# Altium schematic symbol library BMS-lib.SchLib: 40 symbols (part 1 of 2)
Pins are listed as number, name and electrical type; pins without a type are passive.

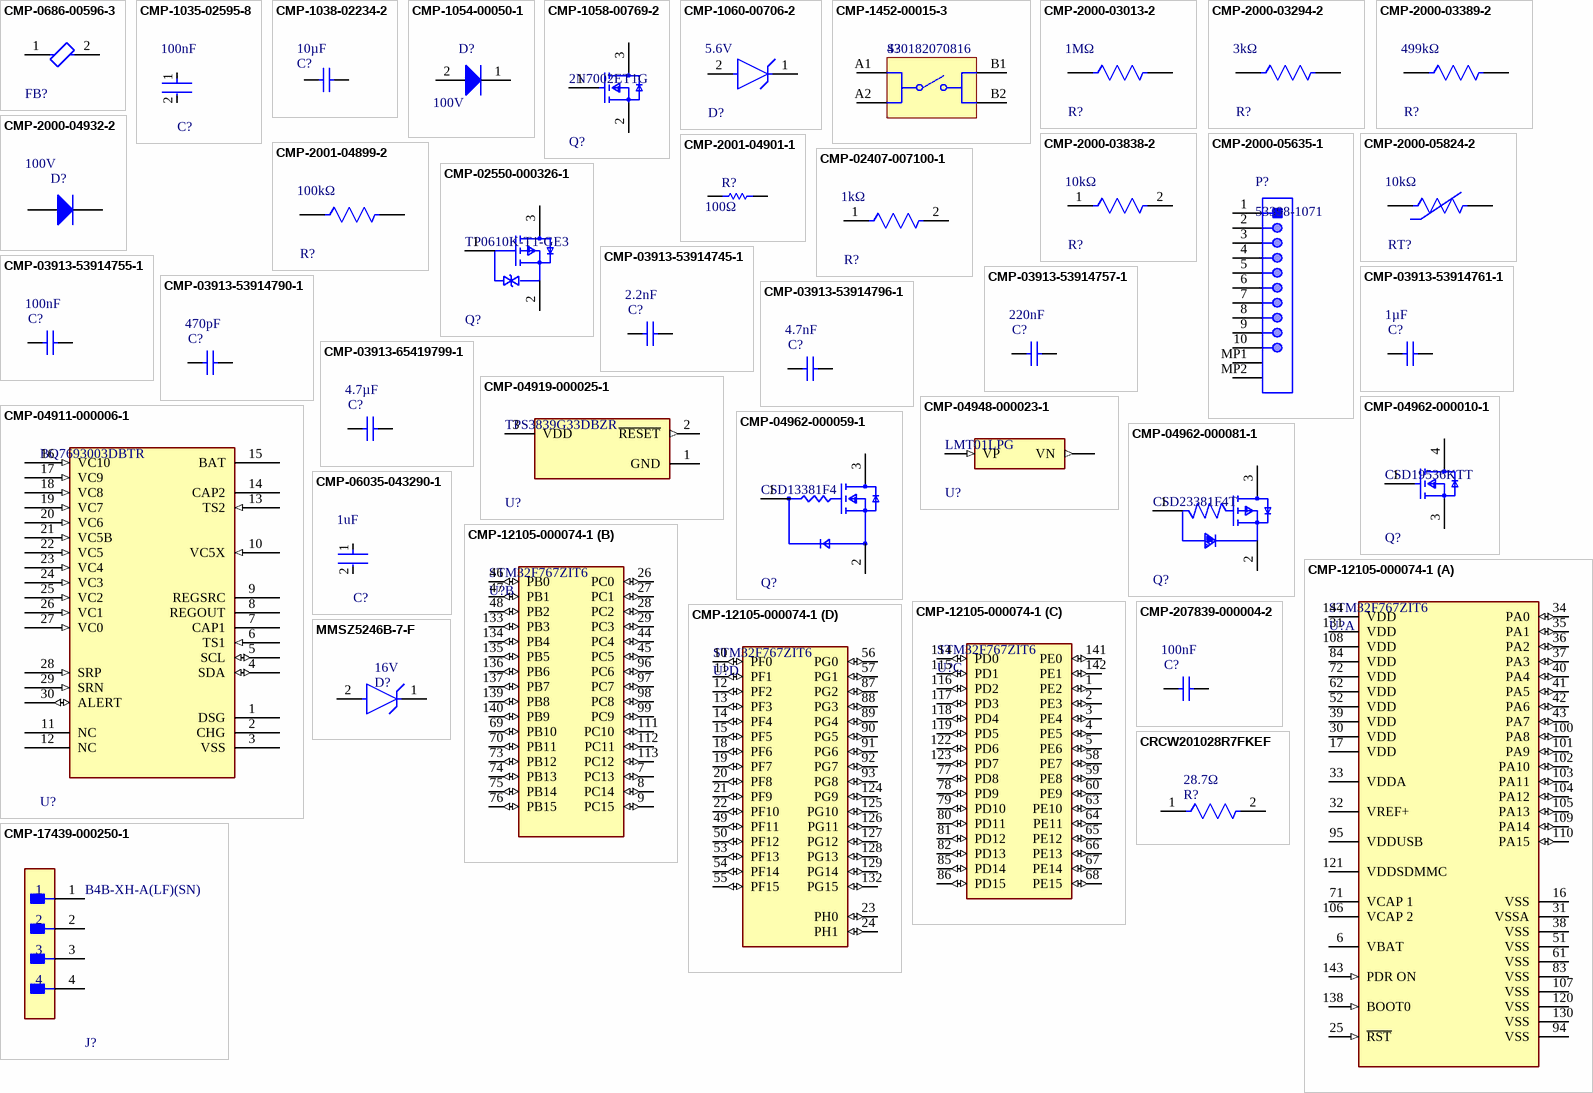
[diagram p0: symbols CMP-0686-00596-3 to MMSZ5246B-7-F]

## CMP-0686-00596-3
designator FB?, comment BLM18SG221TN1D  (value not drawn)
Chip Ferrite Bead, 0603, 220Ω @ 100MHz, 25%, 0.04Ω, 2.5A; Impedance: 220R; DC Resistance-Max: 40mR; Number of Circuits: 1; Test Frequency: 100MHz; Material: Ferrite; Lead Free: Lead Free; Width: 0.8mm; Max Current Rating: 2.5A; Termination: SMD/SMT; Depth: 0.95mm; Packaging: Tape and Reel; Case Code (Metric): 1608; DC Current: 2.5A; Weight: 7.1E-05oz; Min Operating Temperature: -55°C; DC Resistance (DCR): 40mR; Max Operating Temperature: 125°C; Core Material: Ferrite; Max DC Current: 2.5A; Case/Package: 0603; REACH SVHC: No SVHC; Height: 0.8mm; Number of Pins: 2; Tolerance: 25%; RoHS Compliant: Yes; Radiation Hardening: No; Current Rating: 2.5A; Number of Lines: 1; Series: BLM18S; Case Code (Imperial): 0603; Length: 1.6mm; Package Quantity: 1; Supplier 1: Mouser; Supplier Part Number 1: 81-BLM18SG221TN1D
footprint FP-BLM18-0_15-t0_5-IPC_C
footprint FP-BLM18-0_15-t0_5-MFG
footprint FP-BLM18-0_15-t0_5-IPC_A
footprint FP-BLM18-0_15-t0_5-IPC_B
pins: 1, 2

## CMP-1035-02595-8
designator C?, comment Capacitance: 100nF  (hidden comment: GRM188R72A104KA35D)
Chip Multilayer Ceramic Capacitors for General Purpose, 0603, 0.10uF, X7R, 15%, 10%, 100V; Voltage Rating (DC): 100V; Material: Ceramic; Packaging: Tape and Reel; Dielectric: X7R; Case Code (Imperial): 0603; Package Quantity: 1; Height: 0.8mm; Weight: 0.000222oz; Min Operating Temperature: -55°C; Depth: 0.8mm; Mount: Surface Mount; Thickness: 0.035inch; Voltage: 100V; REACH SVHC: No SVHC; Case/Package: 0603; Voltage Rating: 100V; Width: 0.8mm; Tolerance: 10%; Lead Free: Lead Free; Case Code (Metric): 1608; Radiation Hardening: No; Max Operating Temperature: 125°C; Termination: SMD/SMT; Length: 1.6mm; Supplier 1: Mouser; Supplier Part Number 1: 81-GRM188R72A104KA35; Supplier 2: Digikey; Supplier Part Number 2: 490-3285-1-ND
footprint FP-GRM188-0_1-e0_2_0_5-IPC_A
footprint FP-GRM188-0_1-e0_2_0_5-IPC_B
footprint FP-GRM188-0_1-e0_2_0_5-MFG
footprint FP-GRM188-0_1-e0_2_0_5-IPC_C
pins: 1, 2

## CMP-1038-02234-2
designator C?, comment Capacitance: 10µF  (hidden comment: GRM32ER7YA106KA12L)
Chip Capacitor, 10 uF, +/- 10%, 35 V, -55 to 125 degC, 1210 (3225 Metric), RoHS, Tape and Reel; Manufacturer: Murata; Rated voltage: 35VDC; Ceramic type: X7R; Construction form: 1210; Package Description: 2-Pin Surface Mount Device, Body 3.2 x 2.5 mm; Datasheet Version: 11/2014; Capacitance tolerance: ±10%; Datasheet URL: https://datasheet.ciiva.com/3777/grm32er7ya106ka1223-3777248.pdf; Package Reference: 1210; Manufacturer URL: http://www.murata.com/; Mounting Technology: SurfaceMount; Supplier 1: Mouser; Supplier Part Number 1: 81-GRM32ER7YA106KA2L
footprint CAPC3225X270X30ML30 (Chip Capacitor, 2-Leads, Body 3.5x2.7mm, IPC Low Density)
footprint CAPC3225X270X30LL30 (Chip Capacitor, 2-Leads, Body 3.5x2.7mm, IPC High Density)
footprint CAPC3225X270X30NL30 (Chip Capacitor, 2-Leads, Body 3.5x2.7mm, IPC Medium Density)
pins: 1, 2

## CMP-1054-00050-1
designator D?, comment Voltage Rating (DC): 100V  (hidden comment: MMSD914T1G)
Rectifier Diode, 1 Phase, 1 Element, 0.2A, 100V V(RRM), Silicon; Manufacturer: On Semiconductor; Configuration: Single; trr Max (ns): 4; IF Max (A): 0.2; Packing: Tape and Reel; Package Body Material: Plastic; Forward Voltage: 1V; Non-rep Pk Forward Current-Max: 500mA; Number of Elements: 1; Max Output current: 200mA; Max Power Dissipation: 425mW; Reverse Recovery Time-Max: 0.004us; Time @ Peak Reflow Temperature-Max (s): 40s; Qualification Status: Not Qualified; ComponentLink2URL: http://www.onsemi.com/pub_link/Collateral/MMSD914T1-D.PDF; PackageVersion: Rev. G, 10/2009; PackageReference: SOD-123-2-425-04; DatasheetVersion: Rev. 11; PackageDescription: 2-Pin SOD, Body 1.6 x 2.69 mm; ComponentLink3Description: Package Specification; ComponentLink2Description: Datasheet; ComponentLink3URL: http://www.onsemi.com/pub_link/Collateral/425-04.PDF; ComponentLink1URL: http://www.onsemi.com/; RoHS: TRUE; Mounting Technology: Surface Mount; ComponentLink1Description: Manufacturer URL; PartNumber: MMSD914T1G; Supplier: Future Electronics; Supplier Part Number: 5827118; Manufacturer Part Number: MMSD914T1G; Category: Rectifier Diodes; Stock: 801000; Pricing: 3000=0.0143, 12000=0.0136, 30000=0.0132, 75000=0.0129, 120000=0.0123 (USD); Pins: 2; Diode Element Material: SILICON; Package Shape: Rectangular; Terminal Finish: Tin; Min Operating Temperature: -55°C; Max Operating Temperature: 150°C; JESD-609 Code: e3; Diode Type: RECTIFIER; JESD-30 Code: R-PDSO-G2; Moisture Sensitivity Level: 1; Package Style: SMALL OUTLINEMeter; Rep Pk Reverse Voltage-Max: 100V; Surface Mount: Yes; Terminal Form: Gull Wing; Terminal Position: DUAL; Peak Reflow Temperature (Cel): 260°C; Reach SVHC Compliant: Yes; RoHS Compliant: Yes; ComponentLink4URL: https://datasheet.ciiva.com:443/pdfs/VipMasterIC/IC/ONSM/ONSMS25591/ONSMS25591-1.pdf?src-supplier=IHS+Markit; ComponentLink4Description: https://datasheet.ciiva.com:443/pdfs/VipMasterIC/IC/ONSM/ONSMS25591/ONSMS25591-1.pdf?src-supplier=IHS+Markit; ComponentLink5URL: https://datasheet.ciiva.com/927/mmsd914t1-d-927475.pdf?src-supplier=Avnet; ComponentLink5Description: https://datasheet.ciiva.com/927/mmsd914t1-d-927475.pdf?src-supplier=Avnet; ComponentLink6URL: https://datasheet.ciiva.com/915/mmsd914t1-d-915389.pdf?src-supplier=Digikey; ComponentLink6Description: https://datasheet.ciiva.com/915/mmsd914t1-d-915389.pdf?src-supplier=Digikey; ComponentLink7URL: https://datasheet.ciiva.com/915/mmsd914t1-d-915390.pdf?src-supplier=Digikey; ComponentLink7Description: https://datasheet.ciiva.com/915/mmsd914t1-d-915390.pdf?src-supplier=Digikey; ComponentLink8URL: https://datasheet.ciiva.com/915/mmsd914t1-d-915391.pdf?src-supplier=Digikey; ComponentLink8Description: https://datasheet.ciiva.com/915/mmsd914t1-d-915391.pdf?src-supplier=Digikey; ComponentLink9URL: https://datasheet.ciiva.com/8299/mmsd914t1-d-8299885.pdf?src-supplier=Avnet; ComponentLink9Description: https://datasheet.ciiva.com/8299/mmsd914t1-d-8299885.pdf?src-supplier=Avnet; Supplier 1: Mouser; Supplier Part Number 1: 863-MMSD914T1G; Supplier 2: Digikey; Supplier Part Number 2: MMSD914T1GOSCT-ND
footprint ONSC-SOD-123-2-425-04_V (SOD, 2-Leads, Body 2.69x1.6mm)
pins: 1 K, 2 A

## CMP-1058-00769-2
designator Q?, comment 2N7002ET1G
MOSFET N-CH 60V 260MA SOT-23; On-State Resistance: 2.5R; Turn-Off Delay Time: 4.8ns; Nominal Vgs: 1V; Element Configuration: Single; Rise Time: 1.2ns; Input Capacitance: 26.7pF; Number of Elements: 1; Turn-On Delay Time: 1.7ns; Gate to Source Voltage (Vgs): 20V; Max Power Dissipation: 300mW; Drain to Source Breakdown Voltage: 60V; Max Operating Temperature: 150°C; REACH SVHC: No SVHC; Case/Package: SOT-23-3; Lead Free: Lead Free; Length: 2.9mm; Height: 0.94mm; Package Quantity: 3000; Min Operating Temperature: -55°C; Radiation Hardening: No; Packaging: Tape and Reel; Fall Time: 1.2ns; Drain to Source Resistance: 2.5R; Halogen Free: Halogen Free; Threshold Voltage: 1V; Number of Pins: 3; Continuous Drain Current (ID): 260mA; Rds On Max: 2.5R; Power Dissipation: 300mW; Width: 1.3mm; Supplier 1: Mouser; Supplier Part Number 1: 863-2N7002ET1G; Supplier 2: Digikey; Supplier Part Number 2: 2N7002ET1GOSCT-ND
footprint FP-318-08-MFG
footprint FP-318-08-IPC_C
footprint FP-318-08-IPC_B
footprint FP-318-08-IPC_A
pins: 1 Gate, 2 Source, 3 Drain

## CMP-1060-00706-2
designator D?, comment Voltage Rating (DC): 5.6V  (hidden comment: MM3Z5V6ST1G)
DIODE ZENER 5.6V 300MW SOD323; Test Current: 5mA; Power Rating: 200mW; ESD Protection: Yes; Peak Reverse Current: 1uA; Voltage Tolerance: 2%; Forward Voltage: 900mV; Impedance: 40R; Element Configuration: Single; Material: Plastic; Zener Current: 10mA; Length: 1.8mm; Package Quantity: 1; Contact Plating: Tin; Number of Pins: 2; Case/Package: SOD-323-2; Max Power Dissipation: 200mW; Lead Free: Lead Free; Radiation Hardening: No; Width: 1.35mm; REACH SVHC: No SVHC; Zener Voltage: 5.6V; Height: 1mm; Max Reverse Leakage Current: 1uA; Packaging: Tape and Reel; Min Operating Temperature: -65°C; Power Dissipation: 200mW; Max Operating Temperature: 150°C; Working Voltage: 5.6V; Tolerance: 2%; Supplier 1: Mouser; Supplier Part Number 1: 863-MM3Z5V6ST1G; Supplier 2: Digikey; Supplier Part Number 2: MM3Z5V6ST1GOSCT-ND
footprint FP-477-02-MFG
footprint FP-477-02-IPC_C
footprint FP-477-02-IPC_B
footprint FP-477-02-IPC_A
pins: 1 C, 2 A

## CMP-1452-00015-3
designator S?, comment 430182070816
Switch Tactile Spst-no 0.05A 12V; Life (Cycles): 1Mcycles; Switch Travel: 250µm; Throw Configuration: SPST; Switch Function: Off-Mom; Actuator Material: Liquid Crystal Polymer, Polymer; Contact Current Rating: 50mA; Illumination Type: Illuminated, Non-Illuminated; Insulation Resistance: 100MΩ; Actuator Length: 3.6mm; Color: Black; Mount: Surface Mount; Contact Material: Stainless Steel, Steel; REACH SVHC: No SVHC; Width: 6.2mm; Voltage Rating (DC): 12V; RoHS: Compliant; Length: 6.2mm; Height: 7mm; Current Rating: 50mA; Lead Free: Lead Free; Termination: Gull Wing; Min Operating Temperature: -40°C; Voltage Rating: 12V; Max Operating Temperature: 85°C; Diameter: 3mm; Contact Plating: Silver; Packaging: Tape and Reel; Mechanical Life: 1Mcycles; Contact Resistance: 100mΩ; Supplier 1: Mouser; Supplier Part Number 1: 710-430182070816
footprint 430182070816 (SMD Tact Switch, body 6x6mm)
pins: A1, A2, B1, B2

## CMP-2000-03013-2
designator R?, comment Resistance: 1MΩ  (hidden comment: CRCW06031M00FKEA)
RES Thick Film, 1MΩ, 1%, 0.1W, 100ppm/°C, 0603; Max Power Dissipation: 100mW; Voltage Rating (DC): 75V; Depth: 0.85mm; Max Operating Temperature: 155°C; Length: 1.55mm; Power Rating: 100mW; Military Standard: Not; Features: Automotive AEC-Q200; Min Operating Temperature: -55°C; Number of Pins: 2; Mount: Surface Mount; Package Quantity: 10; Packaging: Tape and Reel; Height: 0.45mm; Radiation Hardening: No; Case Code (Metric): 1608; Temperature Coefficient: 100ppm/°C; Width: 0.85mm; Composition: Thick Film; Termination: SMD/SMT; Tolerance: 1%; Number of Terminations: 2; Lead Free: Lead Free; Contact Plating: Tin; Case/Package: 0603; Weight: 7.1E-05oz; Voltage Rating: 75V; Case Code (Imperial): 0603
footprint FP-CRCW0603-e3-MFG
footprint FP-CRCW0603-e3-IPC_A
footprint FP-CRCW0603-e3-IPC_B
footprint FP-CRCW0603-e3-IPC_C
pins: 1, 2

## CMP-2000-03294-2
designator R?, comment Resistance: 3kΩ  (hidden comment: CRCW06033K00JNEA)
RES Thick Film, 3kΩ, 5%, 0.1W, 200ppm/°C, 0603; Voltage Rating: 75V; Power Rating: 100mW; Mount: Surface Mount; Number of Pins: 2; Weight: 7.1E-05oz; Voltage Rating (DC): 75V; Case Code (Imperial): 0603; Length: 1.55mm; Max Operating Temperature: 155°C; Contact Plating: Tin; Radiation Hardening: No; Temperature Coefficient: 200ppm/°C; Case Code (Metric): 1608; Min Operating Temperature: -55°C; Depth: 0.85mm; Termination: SMD/SMT; Height: 0.02inch; Features: Automotive AEC-Q200; Tolerance: 5%; Number of Terminations: 2; Military Standard: Not; Width: 0.85mm; Case/Package: 0603; Composition: Thick Film; Lead Free: Lead Free; Max Power Dissipation: 100mW; Packaging: Tape and Reel; Working Voltage: 75V; Package Quantity: 1; Supplier 1: Mouser; Supplier Part Number 1: 71-CRCW0603J-3.0K-E3
footprint FP-CRCW0603-e3-MFG
footprint FP-CRCW0603-e3-IPC_A
footprint FP-CRCW0603-e3-IPC_B
footprint FP-CRCW0603-e3-IPC_C
pins: 1, 2

## CMP-2000-03389-2
designator R?, comment Resistance: 499kΩ  (hidden comment: CRCW0603499KFKEA)
Fixed Resistor, Metal Glaze/thick Film, 0.1W, 499000ohm, 75V, 1% +/-Tol, 100ppm/Cel, Surface Mount, 0603; Manufacturer: Vishay; Temperature Coefficient: 100ppm/°C; Power Rating: 100mW; Value: 499kR; Rated Temperature: 70°C; Package Height: 0.45mm; Package Length: 1.55mm; Package Width: 0.85mm; Reference Standard: AEC-Q200; Min Operating Temperature: -55°C; Radiation Hardening: No; Weight: 7.1E-05oz; Case/Package: 0603; Depth: 0.85mm; Package Quantity: 10; Working Voltage: 75V; Height: 0.45mm; Voltage Rating (DC): 75V; Case Code (Metric): 1608; Case Code (Imperial): 0603; Number of Pins: 2; Lead Free: Lead Free; Contact Plating: Tin; Max Power Dissipation: 100mW; Features: Automotive AEC-Q200; Max Operating Temperature: 155°C; Width: 0.85mm; Termination: SMD/SMT; Packaging: Tape and Reel; Tolerance: 1%; Number of Terminations: 2; Military Standard: Not; Length: 1.55mm; Composition: Thick Film; Mount: Surface Mount; Voltage Rating: 75V; Supplier 1: Digikey; Supplier Part Number 1: 541-499KHDKR-ND; Supplier 2: Digikey; Supplier Part Number 2: 541-499KHCT-ND; Supplier 3: Mouser; Supplier Part Number 3: 71-CRCW0603-499K-E3; Supplier: Mouser; Supplier Part Number: 71-CRCW0603-499K-E3; Manufacturer Part Number: CRCW0603499KFKEA; RoHS: Yes; Category: Chip SMD Resistors; Stock: 55441; Pricing: 1=0.1, 10=0.017, 50=0.017, 100=0.01, 1000=0.008, 10000=0.005 (USD); Mounting Technology: Surface Mount; Pins: 2; Terminal Finish: Nickel; Package Shape: Rectangular; JESD-609 Code: e3; Resistor Type: FIXED RESISTOR; Construction: Chip; Power: 100mW; Technology: METAL GLAZE/THICK FILM; Reach SVHC Compliant: Yes; RoHS Compliant: Yes; ComponentLink1URL: https://datasheet.ciiva.com:443/pdfs/VipMasterIC/IC/VISH/VISH-S-A0007266705/VISH-S-A0007266705-1.pdf?src-supplier=IHS+Markit; ComponentLink1Description: https://datasheet.ciiva.com:443/pdfs/VipMasterIC/IC/VISH/VISH-S-A0007266705/VISH-S-A0007266705-1.pdf?src-supplier=IHS+Markit; ComponentLink2URL: https://datasheet.ciiva.com/11811/0900766b80d98afc-11811204.pdf?src-supplier=Rs; ComponentLink2Description: https://datasheet.ciiva.com/11811/0900766b80d98afc-11811204.pdf?src-supplier=Rs; ComponentLink3URL: https://datasheet.ciiva.com/3257/dcrcwe3-3257647.pdf?src-supplier=Avnet; ComponentLink3Description: https://datasheet.ciiva.com/3257/dcrcwe3-3257647.pdf?src-supplier=Avnet; ComponentLink4URL: https://datasheet.ciiva.com/2465/dcrcwe3-2465609.pdf?src-supplier=Digikey; ComponentLink4Description: https://datasheet.ciiva.com/2465/dcrcwe3-2465609.pdf?src-supplier=Digikey; ComponentLink5URL: https://datasheet.ciiva.com/2465/dcrcwe3-2465610.pdf?src-supplier=Digikey; ComponentLink5Description: https://datasheet.ciiva.com/2465/dcrcwe3-2465610.pdf?src-supplier=Digikey; ComponentLink6URL: https://datasheet.ciiva.com/2465/dcrcwe3-2465611.pdf?src-supplier=Digikey; ComponentLink6Description: https://datasheet.ciiva.com/2465/dcrcwe3-2465611.pdf?src-supplier=Digikey; ComponentLink7URL: https://datasheet.ciiva.com/16784/70201119-16784775.pdf?src-supplier=Allied+Electronics; ComponentLink7Description: https://datasheet.ciiva.com/16784/70201119-16784775.pdf?src-supplier=Allied+Electronics; ComponentLink8URL: https://datasheet.ciiva.com/7168/1635184-7168517.pdf?src-supplier=Newark; ComponentLink8Description: https://datasheet.ciiva.com/7168/1635184-7168517.pdf?src-supplier=Newark; ComponentLink9URL: https://datasheet.ciiva.com/16200/dcrcwe3-16200202.pdf?src-supplier=Future+Electronics; ComponentLink9Description: https://datasheet.ciiva.com/16200/dcrcwe3-16200202.pdf?src-supplier=Future+Electronics; ComponentLink10URL: https://datasheet.ciiva.com/5551/dcrcwe3-109170-5551960.pdf?src-supplier=Mouser; ComponentLink10Description: https://datasheet.ciiva.com/5551/dcrcwe3-109170-5551960.pdf?src-supplier=Mouser
footprint FP-CRCW0603-e3-MFG
footprint FP-CRCW0603-e3-IPC_A
footprint FP-CRCW0603-e3-IPC_B
footprint FP-CRCW0603-e3-IPC_C
pins: 1, 2

## CMP-2000-03838-2
designator R?, comment Resistance: 10kΩ  (hidden comment: CRCW060310K0JNEA)
RES Thick Film, 10kΩ, 5%, 0.1W, 200ppm/°C, 0603; Max Power Dissipation: 100mW; Voltage Rating: 75V; Termination: SMD/SMT; Depth: 0.85mm; Weight: 7.1E-05oz; Military Standard: Not; Case Code (Imperial): 0603; Lead Free: Lead Free; Features: Automotive AEC-Q200; Tolerance: 5%; Case Code (Metric): 1608; Package Quantity: 1; Radiation Hardening: No; Number of Terminations: 2; Max Operating Temperature: 155°C; Min Operating Temperature: -55°C; Composition: Thick Film; Number of Pins: 2; Height: 0.02inch; Contact Plating: Tin; Temperature Coefficient: 200ppm/°C; Width: 0.033inch; Packaging: Tape and Reel; Length: 1.55mm; Mount: Surface Mount; Voltage Rating (DC): 75V; Case/Package: 0603; Power Rating: 100mW; Supplier 1: Mouser; Supplier Part Number 1: 71-CRCW0603J-10K-E3
footprint FP-CRCW0603-e3-MFG
footprint FP-CRCW0603-e3-IPC_A
footprint FP-CRCW0603-e3-IPC_B
footprint FP-CRCW0603-e3-IPC_C
pins: 1, 2

## CMP-2000-04932-2
designator D?, comment Peak Reverse Voltage: 100V  (hidden comment: 1N4148W-7-F)
Fast Switching Diode, 100 V, 0.15 A, -65 to 150 degC, 2-Pin?SOD123, RoHS, Tape and Reel; Recovery Time: 4ns; Brand: DiodesIncorporated; Unit Weight: 0.000353oz; Max Surge Current: 2A; Ir - Reverse Current: 1uA; Vf - Forward Voltage: 1.25V; Configuration: Single; If - Forward Current: 0.15A; Product Category: Diodes-GeneralPurpose,Power,Switching; Operating Temperature Range: -65Cto+150C; Packaging: Reel; Manufacturer URL: http://www.diodes.com/; Maximum Operating Temperature: +150C; Height: 1.25mm; Minimum Operating Temperature: -65C; Product: SwitchingDiodes; Package URL: http://www.diodes.com/datasheets/ds18004.pdf; Type: SwitchingDiode; Package Reference: SOD123-2; Width: 1.7mm; Datasheet URL: http://www.farnell.com/datasheets/1915529.pdf; Datasheet Version: Rev. 24-2, 10/2013; Series: 1N4148; Factory Pack Quantity: 3000; Length: 2.85mm; RoHS: True; Manufacturer: DiodesIncorporated; Mounting Style: SMD/SMT; Package / Case: SOD-123; Supplier 1: Mouser; Supplier Part Number 1: 621-1N4148W-F; Supplier 2: Digikey; Supplier Part Number 2: 1N4148W-FDICT-ND
footprint DIOD-SOD123-2_V (SOD123, 2-Leads, Body 2.7x1.55mm, Height 1.45mm)
pins: 1 A, 2 K

## CMP-2000-05635-1
designator P?, comment 53398-1071
Male Header, Pitch 1.25 mm, 1 x 10 Position, Height 4.7 mm, -40 to 85 degC, RoHS, Tape and Reel; Manufacturer: Molex; Mounting Angle: Vertical; Pitch: 1.25mm; Voltage Rating: 125V; Current Rating: 1A; Number of Rows: 1Row; Housing Material: Nylon; Mounting Technology: SurfaceMount; Mounting Style: SMD; Contact Material: PhosphorBronze; Product: Headers; Datasheet URL: http://www.molex.com/pdm_docs/sd/533981071_sd.pdf; Manufacturer URL: http://www.molex.com/; Datasheet Version: Rev. J, 09/2015; Factory Pack Quantity: 1000; Brand: Molex; Packaging: Reel; Product Category: Headers&WireHousings; Contact Gender: Pin(Male); Number of Positions: 10Position; RoHS: Details; Contact Plating: Tin; Package Description: Male Header, Pitch 1.25 mm, 1 x 10 Position, Height 4.7 mm; Series: 53398; Type: Shrouded; Package Reference: 53398-1071; Tradename: PicoBlade; Termination Style: SMD; Supplier 1: Mouser; Supplier Part Number 1: 538-53398-1071
footprint MOLX-53398-1071_V (SMD, 10-Leads, Body 17.65x3.7mm, Pitch 1.25mm)
pins: 1, 2, 3, 4, 5, 6, 7, 8, 9, 10, MP1, MP2

## CMP-2000-05824-2
designator RT?, comment Resistance: 10kΩ  (hidden comment: 103AT-2)
Thermistor NTC 10KOhm 1% 2-Pin; Lead Pitch: 2.54mm; Height: 2.4mm; Max Operating Temperature: 110°C; Width: 3.7mm; RoHS Compliant: Yes; Min Operating Temperature: -50°C; Termination: Radial; Packaging: Bulk; Number of Pins: 2; Series: AT; Tolerance: 1%; Length: 17mm; Supplier 1: Mouser; Supplier Part Number 1: 954-103AT-2
footprint FP-103AT-2-MFG
pins: 1, 2

## CMP-2001-04899-2
designator R?, comment Resistance: 100kΩ  (hidden comment: CRCW0805100KFKEA)
RES Thick Film, 100kΩ, 1%, 0.125W, 100ppm/°C, 0805; Power Rating: 125mW; Voltage Rating: 150V; Case/Package: 0805; Max Operating Temperature: 155°C; Case Code (Imperial): 0805; Lead Free: Lead Free; Weight: 0.000194oz; Number of Pins: 2; Package Quantity: 5000; Height: 0.45mm; Composition: Thick Film; Military Standard: Not; Tolerance: 1%; Case Code (Metric): 2012; Termination: SMD/SMT; Mount: Surface Mount; Radiation Hardening: No; Width: 1.25mm; Length: 2mm; Depth: 1.25mm; Packaging: Tape and Reel; Min Operating Temperature: -55°C; Contact Plating: Tin; Temperature Coefficient: 100ppm/°C; Voltage Rating (DC): 150V; Supplier 1: Mouser; Supplier Part Number 1: 71-CRCW0805-100K-E3
footprint FP-CRCW0805-e3-MFG
footprint FP-CRCW0805-e3-IPC_A
footprint FP-CRCW0805-e3-IPC_C
footprint FP-CRCW0805-e3-IPC_B
pins: 1, 2

## CMP-2001-04901-1
designator R?, comment Resistance: 100Ω  (hidden comment: CRCW0805100RFKEA)
Manufacturer: Vishay Dale; Part Number: CRCW0805100RFKEA; Supplier 1: Digikey; Supplier Part Number 1: 541-100CCT-ND
footprint RESC2013X50X30ML20T20 (Chip Resistor, 2-Leads, Body 2.00x1.25mm, IPC Low Density)
footprint RESC2013X50X30NL20T20 (Chip Resistor, 2-Leads, Body 2.00x1.25mm, IPC Medium Density)
footprint RESC2013X50X30LL20T20 (Chip Resistor, 2-Leads, Body 2.00x1.25mm, IPC High Density)
pins: 1, 2
1 alternate drawing of the same symbol

## CMP-02407-007100-1
designator R?, comment Resistance: 1kΩ  (hidden comment: CRCW06031K00JNEA)
RES Thick Film, 1kΩ, 5%, 0.1W, 200ppm/°C, 0603; Power Rating: 100mW; Voltage Rating: 75V; Height: 0.02inch; Number of Terminations: 2; Radiation Hardening: No; Max Operating Temperature: 155°C; Packaging: Tape and Reel; Package Quantity: 1; Military Standard: Not; Case/Package: 0603; Weight: 7.1E-05oz; Tolerance: 5%; Temperature Coefficient: 200ppm/°C; Termination: SMD/SMT; Case Code (Metric): 1608; Length: 1.55mm; Min Operating Temperature: -55°C; Depth: 0.85mm; Composition: Thick Film; Width: 0.033inch; Number of Pins: 2; Contact Plating: Tin; Max Power Dissipation: 100mW; Voltage Rating (DC): 75V; Case Code (Imperial): 0603; Lead Free: Lead Free; Features: Automotive AEC-Q200; Supplier 1: Mouser; Supplier Part Number 1: 71-CRCW0603J-1.0K-E3
footprint FP-CRCW0603-e3-IPC_A
footprint FP-CRCW0603-e3-IPC_B
footprint FP-CRCW0603-e3-IPC_C
footprint FP-CRCW0603-e3-MFG
pins: 1, 2

## CMP-02550-000326-1
designator Q?, comment TP0610K-T1-GE3
MOSFET P-CH 60V 185MA SOT23-3; Nominal Vgs: -1V; Polarity: P-CHANNEL; Power Dissipation: 350mW; Element Configuration: Single; Threshold Voltage: -2V; Turn-Off Delay Time: 35ns; Turn-On Delay Time: 20ns; Gate to Source Voltage (Vgs): 20V; Number of Elements: 1; Drain to Source Voltage (Vdss): -60V; Input Capacitance: 155pF; Rds On Max: 190mR; Continuous Drain Current (ID): -185mA; Drain to Source Resistance: 10R; Max Operating Temperature: 150°C; Height: 1.02mm; Weight: 0.050717oz; Radiation Hardening: No; Package Quantity: 1; Min Operating Temperature: -55°C; Packaging: Tape and Reel; Case/Package: SOT-23-3; Width: 1.4mm; Mount: Surface Mount; Series: TrenchFET®; Length: 3.04mm; Max Power Dissipation: 350mW; RoHS Compliant: Yes; Drain to Source Breakdown Voltage: -60V; Number of Pins: 3; Lead Free: Lead Free; Number of Channels: 1; Supplier 1: Mouser; Supplier Part Number 1: 781-TP0610K-T1-GE3
footprint FP-S-03946-IPC_C
footprint FP-S-03946-IPC_A
footprint FP-S-03946-MFG
footprint FP-S-03946-IPC_B
pins: 1 G, 2 S, 3 D

## CMP-03913-53914745-1
designator C?, comment Capacitance: 2.2nF  (hidden comment: 885012206036)
885012206036 Ceramic Capacitor 2.2nF, 16VDC, 0603, ±10 %; NexarPartId: 53914745; Insulation Resistance: 10GΩ; Tolerance: 10%; Voltage Rating (DC): 16V; Dielectric: X7R; Max Operating Temperature: 125°C; Width: 800µm; RoHS: Compliant; Min Operating Temperature: -55°C; Case Code (Imperial): 0603; Length: 1.6mm; Packaging: Tape & Reel (TR); Case/Package: 0603; Height: 800µm; Case Code (Metric): 1608; Voltage Rating: 16V; Thickness: 863.6µm; Mount: Surface Mount; Supplier 1: Mouser; Supplier Part Number 1: 710-885012206036; Supplier 2: Digikey; Supplier Part Number 2: 732-7955-1-ND
footprint WCAP-CSGP_0603_L1.6W0.8H0.8_Reflow (Ceramic Capacitors, body 1.6x0.8mm)
pins: 1, 2

## CMP-03913-53914755-1
designator C?, comment Capacitance: 100nF  (hidden comment: 885012206046)
885012206046 Multilayer Ceramic Capacitor, Wcap-Csgp Series, 0.1 F, 10%, X7R, 16 V, 0603 [1608 Metric] Rohs Compliant: Yes |Wurth...; NexarPartId: 53914755; Insulation Resistance: 5GΩ; Voltage Rating (DC): 16V; Length: 1.6mm; Tolerance: 10%; Case Code (Imperial): 0603; Case/Package: 0603; Height: 800µm; Mount: Surface Mount; Case Code (Metric): 1608; Thickness: 863.6µm; Voltage Rating: 16V; Min Operating Temperature: -55°C; Max Operating Temperature: 125°C; RoHS: Compliant; Packaging: Tape & Reel (TR); REACH SVHC: Unknown; Dielectric: X7R; Width: 800µm; Supplier 1: Mouser; Supplier Part Number 1: 710-885012206046; Supplier 2: Digikey; Supplier Part Number 2: 732-7965-1-ND
footprint WCAP-CSGP_0603_L1.6W0.8H0.8_Reflow (Ceramic Capacitors, body 1.6x0.8mm)
pins: 1, 2

## CMP-03913-53914757-1
designator C?, comment Capacitance: 220nF  (hidden comment: 885012206048)
885012206048 Ceramic Capacitor 220nF, 16VDC, 0603, ±10 %; NexarPartId: 53914757; Voltage Rating (DC): 16V; Insulation Resistance: 2.3GΩ; Dielectric: X7R; Tolerance: 10%; Width: 800µm; Packaging: Tape & Reel (TR); RoHS: Compliant; Length: 1.6mm; REACH SVHC: Unknown; Voltage Rating: 16V; Min Operating Temperature: -55°C; Thickness: 863.6µm; Case Code (Imperial): 0603; Case Code (Metric): 1608; Height: 800µm; Max Operating Temperature: 125°C; Mount: Surface Mount; Case/Package: 0603; Supplier 1: Mouser; Supplier Part Number 1: 710-885012206048
footprint WCAP-CSGP_0603_L1.6W0.8H0.8_Reflow (Ceramic Capacitors, body 1.6x0.8mm)
pins: 1, 2

## CMP-03913-53914761-1
designator C?, comment Capacitance: 1µF  (hidden comment: 885012206052)
885012206052 Capacitor, 1uF Multilayer Ceramic MLCC 16 V , X7R Dielectric 0603 Surface Mount | Wurth Electronics 885012206052; NexarPartId: 53914761; Tolerance: 10%; Voltage Rating: 16V; Insulation Resistance: 100MΩ; Case/Package: 0603; Thickness: 939.8µm; Width: 800µm; Mount: Surface Mount; Case Code (Metric): 1608; Height: 800µm; Min Operating Temperature: -55°C; RoHS: Compliant; Length: 1.6mm; Material: Ceramic; Case Code (Imperial): 0603; Max Operating Temperature: 125°C; Packaging: Cut Tape (CT); Dielectric: X7R; REACH SVHC: Unknown; Voltage Rating (DC): 16V; Supplier 1: Digikey; Supplier Part Number 1: 732-7971-1-ND
footprint WCAP-CSGP_0603_L1.6W0.8H0.8_Reflow (Ceramic Capacitors, body 1.6x0.8mm)
pins: 1, 2

## CMP-03913-53914790-1
designator C?, comment Capacitance: 470pF  (hidden comment: 885012206081)
885012206081 Cap Cer 470PF 50V X7R 0603; NexarPartId: 53914790; Insulation Resistance: 10GΩ; Tolerance: 10%; Min Operating Temperature: -55°C; Max Operating Temperature: 125°C; Length: 1.6mm; Packaging: Tape & Reel (TR); Case/Package: 0603; Height: 800µm; Thickness: 939.8µm; Voltage Rating (DC): 50V; Voltage Rating: 50V; Width: 800µm; Mount: Surface Mount; Case Code (Imperial): 0603; Dielectric: X7R; RoHS: Compliant; Case Code (Metric): 1608; Supplier 1: Mouser; Supplier Part Number 1: 710-885012206081; Supplier 2: Digikey; Supplier Part Number 2: 732-7999-1-ND
footprint WCAP-CSGP_0603_L1.6W0.8H0.8_Reflow (Ceramic Capacitors, body 1.6x0.8mm)
pins: 1, 2

## CMP-03913-53914796-1
designator C?, comment Capacitance: 4.7nF  (hidden comment: 885012206087)
885012206087 Cap Cer 4700PF 50V X7R 0603; NexarPartId: 53914796; Insulation Resistance: 10GΩ; Tolerance: 10%; Case/Package: 0603; Height: 800µm; Mount: Surface Mount; RoHS: Compliant; Dielectric: X7R; Length: 1.6mm; Max Operating Temperature: 125°C; REACH SVHC: Unknown; Packaging: Tape & Reel (TR); Voltage Rating (DC): 50V; Width: 800µm; Voltage Rating: 50V; Thickness: 939.8µm; Min Operating Temperature: -55°C; Case Code (Metric): 1608; Case Code (Imperial): 0603; Supplier 1: Mouser; Supplier Part Number 1: 710-885012206087; Supplier 2: Digikey; Supplier Part Number 2: 732-8005-1-ND
footprint WCAP-CSGP_0603_L1.6W0.8H0.8_Reflow (Ceramic Capacitors, body 1.6x0.8mm)
pins: 1, 2

## CMP-03913-65419799-1
designator C?, comment Capacitance: 4.7µF  (hidden comment: 885012207025)
885012207025 Multilayer Ceramic Capacitor, Wcap-Csgp Series, 4.7 F, 10%, X7R, 10 V, 0805 [2012 Metric] Rohs Compliant: Yes; NexarPartId: 65419799; Voltage Rating: 10V; Insulation Resistance: 20MΩ; Max Operating Temperature: 125°C; Case Code (Metric): 2012; Height: 1.25mm; Mount: Surface Mount; Thickness: 1.4478mm; Length: 2mm; Voltage Rating (DC): 10V; Case Code (Imperial): 0805; REACH SVHC: Unknown; Packaging: Tape & Reel (TR); Width: 1.25mm; Min Operating Temperature: -55°C; Tolerance: 10%; RoHS: Compliant; Case/Package: 0805; Dielectric: X7R; Supplier 1: Mouser; Supplier Part Number 1: 710-885012207025; Supplier 2: Digikey; Supplier Part Number 2: 732-7657-1-ND
footprint WCAP-CSGP_0805_L2W1.25H1.25 (Ceramic Capacitors, body 2x1.25mm)
pins: 1, 2

## CMP-04911-000006-1
designator U?, comment BQ7693003DBTR
IC BATT MGMT LI-ION AFE 30TSSOP; Manufacturer: Texas Instruments; Max Supply Voltage: 25V; Nominal Supply Current: 40-130uA; Number Of Outputs: 2; Number Of Cells: 10; Standoff Height: 0.05mm; Min Supply Voltage: 6V; Octopart: https://octopart.com/bq7693003dbtr-texas+instruments-34472212; Digikey Description: IC BATT MGMT LI-ION AFE 30TSSOP; Ipc Land Pattern Name: SOP50P635X120-30; Mouser Description: 6 to 10-Series Cell Li-Ion and Li-Phosphate Battery Monitor (bq76940 Family) 30-TSSOP -40 to 85; Package: DBT0030A; Manufacturer Part Number: BQ7693003DBTR; Device Class L1: Integrated Circuits (ICs); Temperature Range High: +85°C; RoHS: TRUE; Category: IC; Temperature: -40°C to +85°C; Automotive: No; Device Class L3: Battery Management; ComponentLink2Description: Datasheet; Device Class L2: Power Management ICs; ComponentLink2URL: http://www.ti.com/lit/ds/symlink/bq76930.pdf; Height: 1.2mm; Temperature Range Low: -40°C; Lead Free: Yes; Supplier 1: Mouser; Supplier Part Number 1: 595-BQ7693003DBTR; Supplier 2: Digikey; Supplier Part Number 2: 296-39961-1-ND
footprint FP-DBT0030A-IPC_C
footprint FP-DBT0030A-IPC_A
footprint FP-DBT0030A-IPC_B
footprint FP-DBT0030A-MFG
pins: 1 DSG, 2 CHG, 3 VSS, 4 SDA (io), 5 SCL (io), 6 TS1 (in), 7 CAP1, 8 REGOUT, 9 REGSRC, 10 VC5X (in), 11 NC, 12 NC, 13 TS2 (in), 14 CAP2, 15 BAT, 16 VC10 (in), 17 VC9 (in), 18 VC8 (in), 19 VC7 (in), 20 VC6 (in), 21 VC5B (in), 22 VC5 (in), 23 VC4 (in), 24 VC3 (in), 25 VC2 (in), 26 VC1 (in), 27 VC0 (in), 28 SRP (in), 29 SRN (in), 30 ALERT (io)

## CMP-04919-000025-1
designator U?, comment TPS3839G33DBZR
IC SUPERVISOR 1 CHANNEL SOT23-3; Output: TOTEM-POLE; Reset Timeout: 120ms; Quiescent Current: 150nA; Watchdog Timer: No; Reset: Active Low; Min Supply Voltage: 600mV; Threshold Voltage: 3.08V; Max Reset Threshold Voltage: 3.126V; Max Supply Voltage: 6.5V; Max Supply Current: 500nA; Min Reset Threshold Voltage: 3.003V; Number of Voltages Monitored: 1; RoHS Compliant: Yes; Number of Pins: 3; Max Operating Temperature: 85°C; Case/Package: SOT-23; Radiation Hardening: No; Packaging: Tape and Reel; Min Operating Temperature: -40°C; Type: Simple Reset/Power-On Reset; Package Quantity: 3000; Series: TPS3839G33; Mount: Surface Mount; Lead Free: Lead Free; Supplier 1: Mouser; Supplier Part Number 1: 595-TPS3839G33DBZR
footprint FP-DBZ0003A-MFG
footprint FP-DBZ0003A-IPC_A
footprint FP-DBZ0003A-IPC_B
footprint FP-DBZ0003A-IPC_C
pins: 1 GND (power), 2 ~{RESET} (out), 3 VDD (power)

## CMP-04948-000023-1
designator U?, comment LMT01LPG
SENSOR DIGITAL -50C-150C TO92-2; Manufacturer: Texas Instruments; Max Supply Voltage: 5.5V; Resolution: 13bits; Operating Supply Current: 39uA; Min Supply Voltage: 2V; Sensor Output: Analog Voltage,Other; Ambient Temperature Range Low: -50°C; Category: IC; Temperature: -50°C to +150°C; Octopart: https://octopart.com/lmt01lpg-texas+instruments-60770464; Digikey Description: SENSOR DIGITAL -50C-150C TO92-2; Temperature Range High: +150°C; Device Class L2: Temperature and Humidity Sensors; Mouser Description: 0.5°C Accurate 2-pin Temperature Sensor with a Pulse Train Interface 2-TO-92 -50 to 150; Package: LPG0002A; Ambient Temperature Range High: +150°C; Manufacturer Part Number: LMT01LPG; Lead Free: Yes; Height: 5.05mm; ComponentLink2URL: https://www.ti.com/lit/ds/symlink/lmt01.pdf; Temperature Range Low: -50°C; ComponentLink2Description: Datasheet; Automotive: No; Device Class L3: unset; RoHS: TRUE; Device Class L1: Sensors; Supplier 1: Mouser; Supplier Part Number 1: 595-LMT01LPG
footprint FP-LPG0002A-MFG
pins: 1 VN (out), 2 VP (in)

## CMP-04962-000010-1
designator Q?, comment CSD19536KTT
MOSFET N-CH 100V 200A TO263; Manufacturer: Texas Instruments; Gate Charge At Vgs: 118nC @ 10V; Threshold Vgs Max: 3.2V; Depletion Mode: False; Turn Off Delay Time: 32ns; Rthja Max: 62°C/W; Typ Forward Diode Voltage: 0.9V; Max Forward Diode Voltage: 1.1V; Reverse Recovery Time: 103ns; Number Of Channels: 1; Input Capacitace At Vds: 9250pF @ 50V; Reverse Recovery Charge: 548nC; Threshold Vgs Min: 2.1V; Drain To Source Resistance: 2mΩ; Transconductance: 329S; Power Dissipation: 375W; Gate To Source Voltage: 20V; Turn On Delay Time: 13ns; Max Junction Temp: +175°C; Standoff Height: 0mm; Pulse Drain Current: 400A; Digikey Description: MOSFET N-CH 100V 200A TO263; RoHS: TRUE; Lead Free: Yes; Drain To Source Voltage: 100V; Device Class L1: Discrete Semiconductors; Temperature Range Low: -55°C; Mouser Description: CSD19536KTT 100 V N-Channel NexFET? Power MOSFET 3-DDPAK/TO-263; Number Of N Channels: 1; Temperature Range High: +175°C; Temperature: -55°C to +175°C; Package: 0; ComponentLink2URL: http://www.ti.com/lit/ds/symlink/csd19536ktt.pdf; Height: 4.95mm; Automotive: No; Continuous Drain Current: 200A; Manufacturer Part Number: CSD19536KTT; Device Class L3: MOSFETs; Drain To Source Breakdown Voltage: 100V; ComponentLink2Description: Datasheet; Category: Trans; Device Class L2: Transistors; Octopart: https://octopart.com/csd19536ktt-texas+instruments-57155051; Supplier 1: Mouser; Supplier Part Number 1: 595-CSD19536KTTT
footprint FP-CSD19536KTT-MFG
pins: 1 Gate, 3 Source, 4 Drain

## CMP-04962-000059-1
designator Q?, comment CSD13381F4
MOSFET N-CH 12V 2.1A 3PICOSTAR; Rise Time: 1.5ns; Gate to Source Voltage (Vgs): 8V; Max Power Dissipation: 500mW; Number of Elements: 1; Element Configuration: Single; Turn-Off Delay Time: 11ns; Turn-On Delay Time: 3.7ns; Drain to Source Resistance: 180mR; Input Capacitance: 200pF; Fall Time: 3.8ns; Number of Pins: 3; Drain to Source Breakdown Voltage: 12V; Package Quantity: 3000; Power Dissipation: 500mW; RoHS Compliant: Yes; Case/Package: QFN; Max Operating Temperature: 150°C; Mount: Surface Mount; Continuous Drain Current (ID): 2.1A; Drain to Source Voltage (Vdss): 12V; Number of Channels: 1; Rds On Max: 180mR; Packaging: Tape and Reel; Lead Free: Lead Free; Min Operating Temperature: -55°C; Supplier 1: Mouser; Supplier Part Number 1: 595-CSD13381F4
footprint FP-CSD13381F4-MFG
pins: 1 G, 2 S, 3 D

## CMP-04962-000081-1
designator Q?, comment CSD23381F4T
MOSFET P-CH 12V 2.3A 3PICOSTAR; Fall Time: 7ns; Threshold Voltage: -950mV; Number of Channels: 1; Drain to Source Breakdown Voltage: -12V; Gate to Source Voltage (Vgs): -8V; Input Capacitance: 236pF; Rise Time: 3.9ns; Max Power Dissipation: 500mW; Element Configuration: Single; Drain to Source Resistance: 175mR; Turn-On Delay Time: 4.5ns; Turn-Off Delay Time: 18ns; Max Operating Temperature: 150°C; Lead Free: Lead Free; Drain to Source Voltage (Vdss): 12V; Length: 1.04mm; Number of Pins: 3; Case/Package: QFN; Continuous Drain Current (ID): 2.3A; Width: 0.64mm; Min Operating Temperature: -55°C; REACH SVHC: No SVHC; Packaging: Tape and Reel; Package Quantity: 250; Rds On Max: 175mR; Mount: Surface Mount; RoHS Compliant: Yes; Height: 0.35mm; Supplier 1: Mouser; Supplier Part Number 1: 595-CSD23381F4T; Supplier 2: Digikey; Supplier Part Number 2: 296-37782-1-ND
footprint FP-YJC0003A-MFG
pins: 1 G, 2 S, 3 D

## CMP-06035-043290-1
designator C?, comment Capacitance: 1uF  (hidden comment: GCJ21BR71H105KA01L)
Multilayer Ceramic Capacitors MLCC - SMD/SMT 0805 1uF 10%, 50VDC,  X7R 15%; Voltage Rating (DC): 50V; Max Operating Temperature: 125°C; Ratings: AEC-Q200; Height: 1.25mm; Lead Free: Lead Free; Weight: 0.000335oz; Thickness: 0.057inch; Min Operating Temperature: -55°C; Termination: SMD/SMT; Features: Soft Termination; Mount: Surface Mount; Voltage Rating: 50V; Case Code (Imperial): 0805; Package Quantity: 3000; Tolerance: 10%; Width: 0.049inch; Case/Package: 0805; Case Code (Metric): 2012; Dielectric: X7R; Packaging: Tape and Reel; Length: 0.079inch; Supplier 1: Mouser; Supplier Part Number 1: 81-GCJ21BR71H105KA1L
footprint FP-GCJ21B-0_3-IPC_B
footprint FP-GCJ21B-0_3-IPC_C
footprint FP-GCJ21B-0_3-IPC_A
footprint FP-GCJ21B-0_3-MFG
pins: 1, 2

## CMP-12105-000074-1
designator U?, comment STM32F767ZIT6
IC MCU 32BIT 2MB FLASH 144LQFP; Manufacturer: STMicroelectronics; Ram Size: 512KBytes; Number Of I/Os: 114; Core Architecture: ARM Cortex-M7; Memory Size: 2048KBytes; Standoff Height: 0.05mm; Number Of Adc Channels: 24; Max Supply Voltage: 3.6V; Number Of Pwm Channels: 4; Min Supply Voltage: 1.7V; Max Junction Temp: +105°C; Number Of Timers/Counters: 15; Number Of Usb Channels: 1; Interface: I2C,SPI,UART,USART,EBI/EMI,CAN,USB,LIN,IrDA,Ethernet,I2S; Frequency: 216MHz; Data Bus Width: 32bits; Number Of Spi Channels: 6; Number Of A/D Converters: 3; Octopart: https://octopart.com/stm32f767zit6-stmicroelectronics-70527068; Category: IC; Device Class L2: Embedded Processors and Controllers; Package: LQFP144-1A; RoHS: TRUE; Digikey Description: IC MCU 32BIT 2MB FLASH 144LQFP; ComponentLink2Description: Datasheet; Automotive: No; Mouser Description: ARM Microcontrollers - MCU High-performance and DSP with FPU, ARM Cortex-M7 MCU with 2 Mbytes Flash, 216 MHz CPU, Art Accelerator, L1 cache, SDRAM,; Ambient Temperature Range Low: -40°C; Ambient Temperature Range High: +85°C; Memory Type: FLASH; ComponentLink2URL: https://www.st.com/resource/en/datasheet/stm32f767zi.pdf; Number Of Uart Channels: 4; Temperature: -40°C to +85°C; Device Class L3: Microcontrollers; Device Class L1: Integrated Circuits (ICs); Temperature Range Low: -40°C; Temperature Range High: +85°C; Lead Free: Yes; Number Of I2C Channels: 4; Number Of Ethernet Channels: 1; Height: 1.6mm; Number Of Cores: 1; Manufacturer Part Number: STM32F767ZIT6; Ipc Land Pattern Name: QFP50P2200X2200X160-144; Supplier 1: Digikey; Supplier Part Number 1: 497-16521-ND
footprint FP-LQFP144-1A-IPC_B
footprint FP-LQFP144-1A-IPC_C
footprint FP-LQFP144-1A-IPC_A
footprint FP-LQFP144-1A-MFG
part A pins: 6 VBAT (power), 16 VSS (power), 17 VDD (power), 25 ~{RST} (in), 30 VDD (power), 31 VSSA (power), 32 VREF+ (power), 33 VDDA (power), 34 PA0 (io), 35 PA1 (io), 36 PA2 (io), 37 PA3 (io), 38 VSS (power), 39 VDD (power), 40 PA4 (io), 41 PA5 (io), 42 PA6 (io), 43 PA7 (io), 51 VSS (power), 52 VDD (power), 61 VSS (power), 62 VDD (power), 71 VCAP 1 (power), 72 VDD (power), 83 VSS (power), 84 VDD (power), 94 VSS (power), 95 VDDUSB (power), 100 PA8 (io), 101 PA9 (io), 102 PA10 (io), 103 PA11 (io), 104 PA12 (io), 105 PA13 (io), 106 VCAP 2 (power), 107 VSS (power), 108 VDD (power), 109 PA14 (io), 110 PA15 (io), 120 VSS (power), 121 VDDSDMMC (power), 130 VSS (power), 131 VDD (power), 138 BOOT0 (in), 143 PDR ON (in), 144 VDD (power)
part B pins: 7 PC13 (io), 8 PC14 (io), 9 PC15 (io), 26 PC0 (io), 27 PC1 (io), 28 PC2 (io), 29 PC3 (io), 44 PC4 (io), 45 PC5 (io), 46 PB0 (io), 47 PB1 (io), 48 PB2 (io), 69 PB10 (io), 70 PB11 (io), 73 PB12 (io), 74 PB13 (io), 75 PB14 (io), 76 PB15 (io), 96 PC6 (io), 97 PC7 (io), 98 PC8 (io), 99 PC9 (io), 111 PC10 (io), 112 PC11 (io), 113 PC12 (io), 133 PB3 (io), 134 PB4 (io), 135 PB5 (io), 136 PB6 (io), 137 PB7 (io), 139 PB8 (io), 140 PB9 (io)
part C pins: 1 PE2 (io), 2 PE3 (io), 3 PE4 (io), 4 PE5 (io), 5 PE6 (io), 58 PE7 (io), 59 PE8 (io), 60 PE9 (io), 63 PE10 (io), 64 PE11 (io), 65 PE12 (io), 66 PE13 (io), 67 PE14 (io), 68 PE15 (io), 77 PD8 (io), 78 PD9 (io), 79 PD10 (io), 80 PD11 (io), 81 PD12 (io), 82 PD13 (io), 85 PD14 (io), 86 PD15 (io), 114 PD0 (io), 115 PD1 (io), 116 PD2 (io), 117 PD3 (io), 118 PD4 (io), 119 PD5 (io), 122 PD6 (io), 123 PD7 (io), 141 PE0 (io), 142 PE1 (io)
part D pins: 10 PF0 (io), 11 PF1 (io), 12 PF2 (io), 13 PF3 (io), 14 PF4 (io), 15 PF5 (io), 18 PF6 (io), 19 PF7 (io), 20 PF8 (io), 21 PF9 (io), 22 PF10 (io), 23 PH0 (io), 24 PH1 (io), 49 PF11 (io), 50 PF12 (io), 53 PF13 (io), 54 PF14 (io), 55 PF15 (io), 56 PG0 (io), 57 PG1 (io), 87 PG2 (io), 88 PG3 (io), 89 PG4 (io), 90 PG5 (io), 91 PG6 (io), 92 PG7 (io), 93 PG8 (io), 124 PG9 (io), 125 PG10 (io), 126 PG11 (io), 127 PG12 (io), 128 PG13 (io), 129 PG14 (io), 132 PG15 (io)

## CMP-17439-000250-1
designator J?, comment B4B-XH-A(LF)(SN)
CONN HEADER VERT 4POS 2.5MM; Number of Contacts: 4; Contact Resistance: 20mR; Voltage Rating: 250V; Max Current Rating: 3A; Gender: Male; Wire/Cable Gauge: 22AWG; Mated Stacking Heights: 9.8mm; Insulation Resistance: 1GR; Orientation: Straight; Contact Type: Male Pin; Contact Finish - Mating: TIN; Series: XH; Max Voltage Rating (AC): 250V; Lead Pitch: 2.5mm; Contact Shape: Square; Insulation Color: Natural; Termination: Solder; Lead Free: Lead Free; Voltage Rating (AC): 250V; Number of Rows: 1; Flammability Rating: UL94 V-0; Number of Positions: 4; Max Operating Temperature: 85°C; Package Quantity: 500; Mount: Through Hole; REACH SVHC: No SVHC; Connector Type: Header; Insulation Material: Nylon; Fastening Type: Detent; Min Operating Temperature: -25°C; Housing Color: White; Packaging: Bulk; Contact Plating: Tin; Contact Material: Brass; Max Voltage Rating (DC): 250V; Housing Material: Polyamide; Color: Natural; Material: Polyamide; Pitch: 2.5mm; Depth: 5.75mm; Current Rating: 3A; Length: 12.4mm; Supplier 1: Mouser; Supplier Part Number 1: 306-B4BXHALFSN
footprint FP-B4B-XH-A_LF_SN-MFG
pins: 1, 2, 3, 4

## CMP-207839-000004-2
designator C?, comment Capacitance: 100nF  (hidden comment: 885012206095)
CAP CER 0.1UF 50V X7R 0603; NexarPartId: 53914804; Tolerance: 10%; Insulation Resistance: 5GΩ; Material: Ceramic; RoHS: Compliant; Voltage Rating (DC): 50V; Case Code (Metric): 1608; Case Code (Imperial): 0603; Mount: Surface Mount; Dielectric: X7R; Length: 1.6mm; Packaging: Cut Tape (CT); Max Operating Temperature: 125°C; Case/Package: 0603; Voltage Rating: 50V; Thickness: 939.8µm; Min Operating Temperature: -55°C; Width: 800µm; Height: 800µm; REACH SVHC: Unknown; Supplier 1: Mouser; Supplier Part Number 1: 710-885012206095; Supplier 2: Digikey; Supplier Part Number 2: 732-8013-1-ND
footprint WCAP-CSGP_0603_L1.6W0.8H0.8_Reflow (Ceramic Capacitors, body 1.6x0.8mm)
pins: 1, 2

## CRCW201028R7FKEF
designator R?  value 28.7Ω  (hidden comment: *)
Fixed Resistor, Metal Glaze/thick Film, 0.75W, 28.7ohm, 400V, 1% +/-Tol, 100ppm/Cel, Surface Mount, 2010; Manufacturer: Vishay Dale; Manufacturer Part Number: CRCW201028R7FKEF; Manufacturer Series: CRCWE3; Power: 750mW; Rated Temperature: 70°C; Temperature Coefficient: 100ppm/°C; Additional Feature: RATED AC VOLTAGE (V): 400; Package Height: 0.6mm; Package Length: 5mm; Package Width: 2.5mm; Reference Standard: AEC-Q200; Supplier: Mouser; Supplier Part Number: 71-CRCW201028R7FKEF; RoHS: Yes; Category: Chip SMD Resistors; Stock: 2319; Pricing: 1=0.22, 10=0.093, 50=0.093, 100=0.059, 1000=0.051, 10000=0.033 (USD); Mounting Technology: Surface Mount; Pins: 2; Package Shape: Rectangular; Case/Package: 2010; Terminal Finish: Nickel; Min Operating Temperature: -55°C; Max Operating Temperature: 155°C; Tolerance: 1%; JESD-609 Code: e3; Resistor Type: FIXED RESISTOR; Construction: Chip; Packaging: Tape and Reel; Series: D/CRCW E3; Technology: METAL GLAZE/THICK FILM; Termination: Wraparound; Working Voltage: 400V; Reach SVHC Compliant: Yes; RoHS Compliant: Yes; ComponentLink1URL: https://datasheet.ciiva.com:443/pdfs/VipMasterIC/IC/VISH/VISH-S-A0007266705/VISH-S-A0007266705-1.pdf?src-supplier=IHS+Markit; ComponentLink1Description: https://datasheet.ciiva.com:443/pdfs/VipMasterIC/IC/VISH/VISH-S-A0007266705/VISH-S-A0007266705-1.pdf?src-supplier=IHS+Markit; ComponentLink2URL: https://datasheet.ciiva.com/2477/dcrcwe3-2477004.pdf?src-supplier=Digikey; ComponentLink2Description: https://datasheet.ciiva.com/2477/dcrcwe3-2477004.pdf?src-supplier=Digikey; ComponentLink3URL: https://datasheet.ciiva.com/2477/dcrcwe3-2477005.pdf?src-supplier=Digikey; ComponentLink3Description: https://datasheet.ciiva.com/2477/dcrcwe3-2477005.pdf?src-supplier=Digikey; ComponentLink4URL: https://datasheet.ciiva.com/2477/dcrcwe3-2477006.pdf?src-supplier=Digikey; ComponentLink4Description: https://datasheet.ciiva.com/2477/dcrcwe3-2477006.pdf?src-supplier=Digikey; Supplier 1: Mouser; Supplier Part Number 1: 71-CRCW201028R7FKEF
pins: 1, 2

## MMSZ5246B-7-F
designator D?  Reference Voltage-Nom: 16V  (hidden comment: *)
Zener Diode, 16V V(Z), 5%, 0.37W, Silicon, Unidirectional; Manufacturer: Diodes; Manufacturer Part Number: MMSZ5246B-7-F; Package Body Material: Plastic; Additional Feature: HIGH RELIABILITY; Dynamic Impedance-Max: 17R; Number of Elements: 1; Max Power Dissipation: 370mW; Time @ Peak Reflow Temperature-Max (s): 40s; Test Current: 7.8mA; Qualification Status: Not Qualified; Supplier: Future Electronics; Supplier Part Number: 8043663; RoHS: Yes; Category: Zener Diodes; Stock: 1230000; Pricing: 3000=0.022, 12000=0.021, 30000=0.0204, 75000=0.0198, 120000=0.019 (USD); Pins: 2; Diode Element Material: SILICON; Package Shape: Rectangular; Terminal Finish: Tin; Min Operating Temperature: -65°C; Max Operating Temperature: 150°C; JESD-609 Code: e3; Polarity: Unidirectional; Diode Type: ZENER; JESD-30 Code: R-PDSO-G2; Moisture Sensitivity Level: 1; Package Style: SMALL OUTLINEMeter; Peak Reflow Temperature (Cel): 260°C; Surface Mount: Yes; Technology: ZENER; Terminal Form: Gull Wing; Terminal Position: DUAL; Voltage Tol-Max: 5%; Reach SVHC Compliant: Yes; RoHS Compliant: Yes; ComponentLink1URL: https://datasheet.ciiva.com:443/pdfs/VipMasterIC/IC/DIOD/DIOD-S-A0003550771/DIOD-S-A0003550771-1.pdf?src-supplier=IHS+Markit; ComponentLink1Description: https://datasheet.ciiva.com:443/pdfs/VipMasterIC/IC/DIOD/DIOD-S-A0003550771/DIOD-S-A0003550771-1.pdf?src-supplier=IHS+Markit; ComponentLink2URL: https://datasheet.ciiva.com/34302/1591156-34302610.pdf?src-supplier=Jameco; ComponentLink2Description: https://datasheet.ciiva.com/34302/1591156-34302610.pdf?src-supplier=Jameco; Supplier 1: Mouser; Supplier Part Number 1: 621-MMSZ5246B-F
footprint SOD3716X145N
pins: 1 C, 2 A

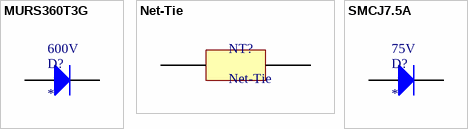
[diagram p1: symbols MURS360T3G to SMCJ7.5A]

## MURS360T3G
designator D?  Rep Pk Reverse Voltage-Max: 600V
Rectifier Diode, 1 Phase, 1 Element, 4A, 600V V(RRM), Silicon; Manufacturer: ON Semiconductor; Manufacturer Part Number: MURS360T3G; Package Body Material: Plastic; Application(s): HIGH VOLTAGE ULTRA FAST RECOVERY POWER; Forward Voltage: 1.28V; Non-rep Pk Forward Current-Max: 75A; Number of Elements: 1; Time @ Peak Reflow Temperature-Max (s): 40s; Additional Feature: FREE WHEELING DIODE; Reverse Recovery Time-Max: 0.075us; Qualification Status: Not Qualified; Supplier: Future Electronics; Supplier Part Number: 6157887; RoHS: Yes; Category: Rectifier Diodes; Stock: 77500; Pricing: 2500=0.186, 5000=0.183, 7500=0.18, 10000=0.179, 12500=0.174 (USD); Pins: 2; Diode Element Material: SILICON; Package Shape: Rectangular; Terminal Finish: Tin; Min Operating Temperature: -65°C; Max Operating Temperature: 175°C; JESD-609 Code: e3; Diode Type: RECTIFIER; JESD-30 Code: R-PDSO-C2; Moisture Sensitivity Level: 1; Number of Phases: 1; Max Output current: 4A; Package Style: SMALL OUTLINEMeter; Peak Reflow Temperature (Cel): 260°C; Surface Mount: Yes; Terminal Form: C BEND; Terminal Position: DUAL; RoHS Compliant: Yes; Reach SVHC Compliant: No; ComponentLink1URL: https://datasheet.ciiva.com:443/pdfs/VipMasterIC/IC/ONSM/ONSM-S-A0003142818/ONSM-S-A0003142818-1.pdf?src-supplier=IHS+Markit; ComponentLink1Description: https://datasheet.ciiva.com:443/pdfs/VipMasterIC/IC/ONSM/ONSM-S-A0003142818/ONSM-S-A0003142818-1.pdf?src-supplier=IHS+Markit; Supplier 1: Mouser; Supplier Part Number 1: 863-MURS360T3G
footprint DIOM8059X261N
pins: 1 A, 2 K

## Net-Tie
designator NT?
pins: 31, 32